# EAGLE library part 68HC908KX8 (library MOTOROLA)
68HC908 Controller, DIL16, KX8, mit serieller Schnittstelle
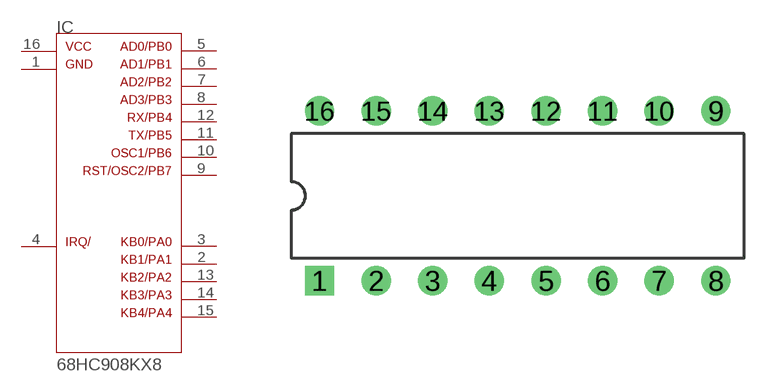
[diagram p55: symbol with the pads of DIL16; footprint DIL16]

Designator prefix IC

## 68HC908KX8DIL  [DIL16]
1  GND
2  PA1
3  PA0
4  IRQ/
5  PB0
6  PB1
7  PB2
8  PB3
9  PB7
10  PB6
11  PB5
12  PB4
13  PA2
14  PA3
15  PA4
16  VCC

## Footprint DIL16 (pad centres in mm)
drill 0.813 square: 1 -8.89,-3.81
drill 0.813 round: 2 -6.35,-3.81; 3 -3.81,-3.81; 4 -1.27,-3.81; 5 1.27,-3.81; 6 3.81,-3.81; 7 6.35,-3.81; 8 8.89,-3.81; 9 8.89,3.81; 10 6.35,3.81; 11 3.81,3.81; 12 1.27,3.81; 13 -1.27,3.81; 14 -3.81,3.81; 15 -6.35,3.81; 16 -8.89,3.81